# Altium footprint library common.PcbLib: 92 footprints (part 6 of 6)
Each footprint in its own frame and in the unit in brackets; x right, y up, seen from the top. Pads: shape width x height; smd on the part's side, far side on the other; paste and mask are expansions set on the pad; w line width, h text height; cw(c..) or ccw(c..) is an arc to the next point about the centre after c.
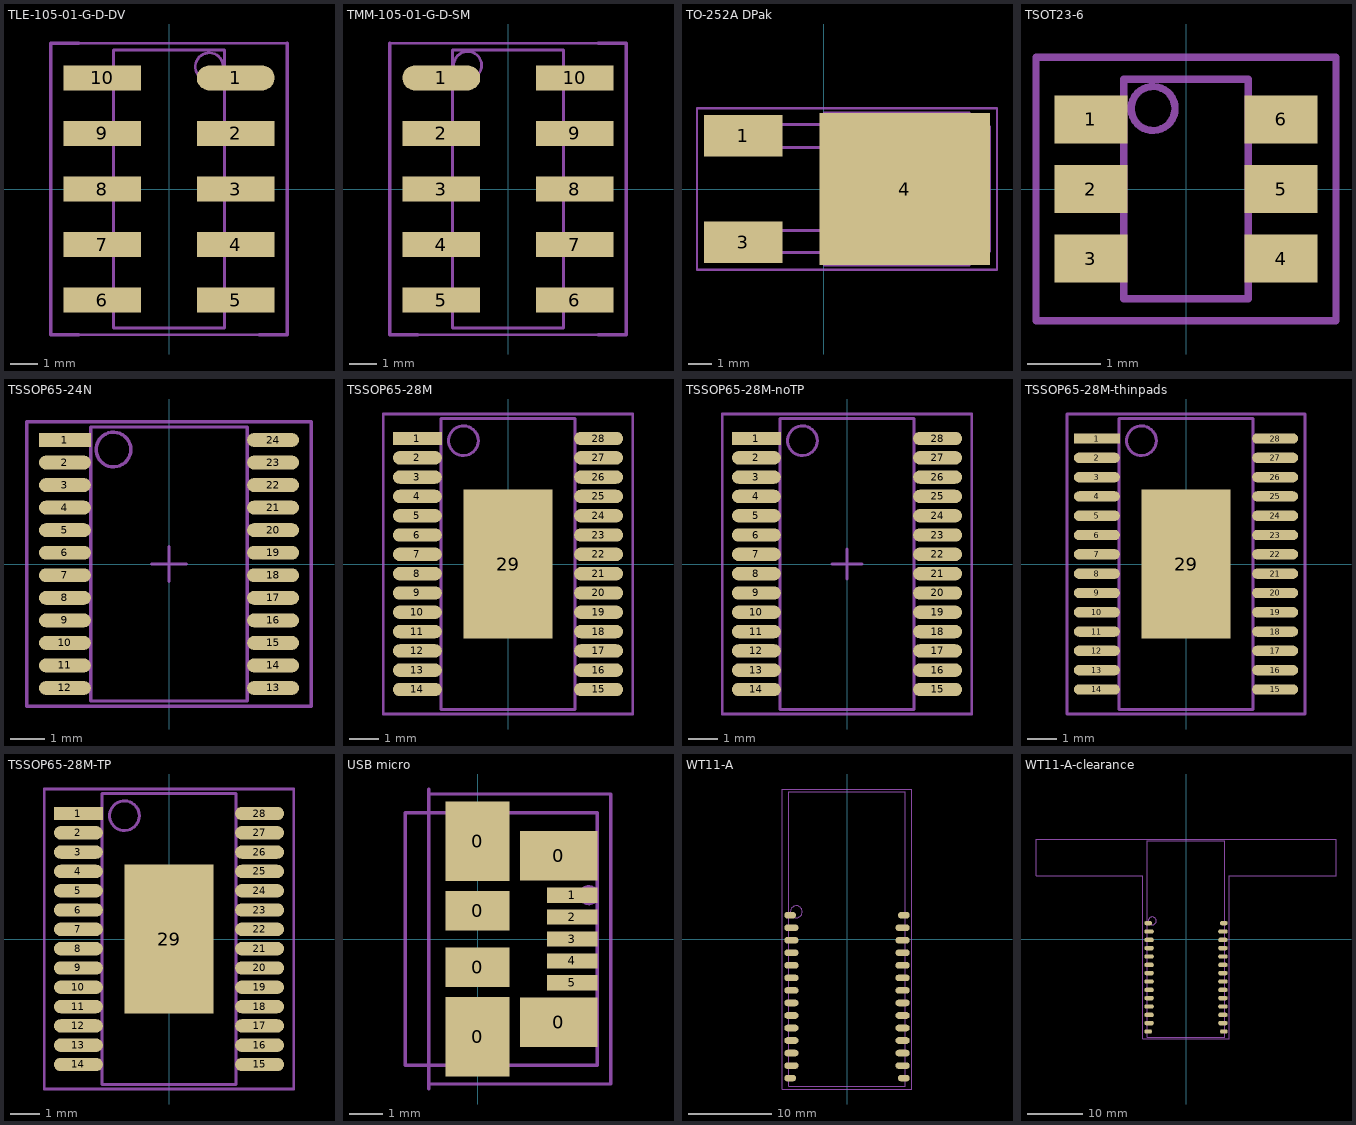
[diagram p5: the footprints below, top view; thin cyan lines are the x and y axes]

## TLE-105-01-G-D-DV [mm] "2x5 Connector Female, Body 10x4mm, Pitch 2mm, IPC Low Density"
height 4.5
pads (10):
  oval 2.8x0.9 smd: 1(2.4,4)
  rect 2.8x0.9 smd: 2(2.4,2) 3(2.4,0) 4(2.4,-2) 5(2.4,-4) 6(-2.4,-4) 7(-2.4,-2) 8(-2.4,0) 9(-2.4,2) 10(-2.4,4)
Mechanical 13:
  circle w0.1: c1.448,4.4 r0.502
  lines w0.1: -2,-5 2,-5 2,5 -2,5 -2,-5
Mechanical 15:
  lines w0.1: -3.25,-5.25 3.25,-5.25 ; -3.25,5.25 4.25,5.25
  lines w0.127: -3.25,-5.25 -4.25,-5.25 -4.25,5.25 -3.25,5.25 ; 3.25,-5.25 4.25,-5.25 4.25,5.25
3D body: height 4.5, standoff 0, extent -2,-5 2,5

## TMM-105-01-G-D-SM [mm] "2x5 Connector Female without holes, Body 10x3.94mm, Pitch 2mm, IPC Low Density"
height 2.77
pads (10):
  oval 2.8x0.9 smd: 1(-2.4,4)
  rect 2.8x0.9 smd: 2(-2.4,2) 3(-2.4,0) 4(-2.4,-2) 5(-2.4,-4) 6(2.4,-4) 7(2.4,-2) 8(2.4,0) 9(2.4,2) 10(2.4,4)
Mechanical 13:
  circle w0.1: c-1.452,4.45 r0.502
  lines w0.1: -2,-5 2,-5 2,5 -2,5 -2,-5
Mechanical 15:
  lines w0.1: -4.25,5.25 3.25,5.25 ; -3.25,-5.25 3.25,-5.25
  lines w0.127: -4.25,5.25 -4.25,-5.25 -3.25,-5.25 ; 3.25,-5.25 4.25,-5.25 4.25,5.25 3.25,5.25
3D body: height 5.92, standoff -1.06, extent -3.275,-5 3.273,5

## TO-252A DPak [mm] "3-Pin Transistor Package, Body 6.75x10.4mm, IPC Low Density"
height 2.4
pads (3):
  rect 3.4x1.8 smd: 1(-3.5,2.3) 3(-3.5,-2.3)
  rect 7.4x6.6 smd: 4(3.5,0)
Mechanical 13:
  lines w0.1: 6.3,-2.7 7.2,-2.7 7.2,2.7 6.3,2.7 ; 0,-3.3 0,3.3 6.3,3.3 6.3,-3.3 0,-3.3
  lines w0.127: 0,-2.75 -5.05,-2.75 -5.05,-1.8 0,-1.8 ; 0,1.8 -4.95,1.8 -4.95,2.8 0,2.8
Mechanical 15:
  lines w0.1: -5.5,-3.5 -5.5,3.5 7.5,3.5 7.5,-3.5 -5.5,-3.5
3D body: height 1.54, standoff 0, extent -5.05,-2.75 0,-1.8
3D body: height 1.54, standoff 0, extent -4.95,1.8 0,2.8
3D body: height 0.6, standoff 0, extent 6.3,-2.7 7.2,2.7
3D body: height 2.4, standoff 0, extent 0,-3.3 6.3,3.3

## TSOT23-6 [mm] "4-Pin Transistor Package, Body 2.9x2.85mm, IPC Low Density"
height 0.87
pads (6):
  rect 1x0.65 smd: 1(-1.3,0.95) 2(-1.3,0) 3(-1.3,-0.95) 4(1.3,-0.95) 5(1.3,0) 6(1.3,0.95)
Mechanical 13:
  circle w0.1: c-0.45,1.1 r0.3
  lines w0.1: -0.85,-1.5 -0.85,1.5 0.85,1.5 0.85,-1.5 -0.85,-1.5
Mechanical 15:
  lines w0.1: -2.05,-1.8 -2.05,1.8 2.05,1.8 2.05,-1.8 -2.05,-1.8
3D body: height 0.9, standoff 0, extent -0.85,-1.5 0.85,1.5

## TSSOP65-24N [mm] "TSSOP, 24-Leads, Body 7.8x4.4mm, Pitch 0.65mm, IPC Medium Density"
height 1.2
pads (24):
  rect 1.5x0.4 smd: 1(-3,3.575)
  oval 1.5x0.4 smd: 2(-3,2.925) 3(-3,2.275) 4(-3,1.625) 5(-3,0.975) 6(-3,0.325) 7(-3,-0.325) 8(-3,-0.975) 9(-3,-1.625) 10(-3,-2.275) 11(-3,-2.925) 12(-3,-3.575) 13(3,-3.575) 14(3,-2.925) 15(3,-2.275) 16(3,-1.625) 17(3,-0.975) 18(3,-0.325) 19(3,0.325) 20(3,0.975) 21(3,1.625) 22(3,2.275) 23(3,2.925) 24(3,3.575)
Mechanical 13:
  circle w0.1: c-1.6,3.3 r0.5
  lines w0.1: -2.25,-3.95 2.25,-3.95 2.25,3.95 -2.25,3.95 -2.25,-3.95
Mechanical 15:
  lines w0.1: -0.5,0 0.5,0 ; 0,-0.5 0,0.5 ; -4.1,-4.1 4.1,-4.1 4.1,4.1 -4.1,4.1 -4.1,-4.1
3D body: height 1.2, standoff 0, extent -2.25,-3.95 2.25,3.95

## TSSOP65-28M [mm] "TSSOP, 28-Leads, Exposed Pad, Body 9.7x4.4mm, Pitch 0.65mm, IPC Low Density"
height 1.2
pads (29):
  rect 1.65x0.45 smd: 1(-3.05,4.225)
  oval 1.65x0.45 smd: 2(-3.05,3.575) 3(-3.05,2.925) 4(-3.05,2.275) 5(-3.05,1.625) 6(-3.05,0.975) 7(-3.05,0.325) 8(-3.05,-0.325) 9(-3.05,-0.975) 10(-3.05,-1.625) 11(-3.05,-2.275) 12(-3.05,-2.925) 13(-3.05,-3.575) 14(-3.05,-4.225) 15(3.05,-4.225) 16(3.05,-3.575) 17(3.05,-2.925) 18(3.05,-2.275) 19(3.05,-1.625) 20(3.05,-0.975) 21(3.05,-0.325) 22(3.05,0.325) 23(3.05,0.975) 24(3.05,1.625) 25(3.05,2.275) 26(3.05,2.925) 27(3.05,3.575) 28(3.05,4.225)
  rect 3x5 smd: 29(0,0)
Mechanical 13:
  circle w0.1: c-1.5,4.15 r0.5
  lines w0.1: -2.25,-4.9 2.25,-4.9 2.25,4.9 -2.25,4.9 -2.25,-4.9
Mechanical 15:
  lines w0.1: -0.5,0 0.5,0 ; 0,-0.5 0,0.5 ; -4.2,-5.05 4.2,-5.05 4.2,5.05 -4.2,5.05 -4.2,-5.05
3D body: height 1.2, standoff 0, extent -2.25,-4.9 2.25,4.9

## TSSOP65-28M-noTP [mm] "TSSOP, 28-Leads, Body 9.7x4.4mm, Pitch 0.65mm, IPC Low Density"
height 1.2
pads (28):
  rect 1.65x0.45 smd: 1(-3.05,4.225)
  oval 1.65x0.45 smd: 2(-3.05,3.575) 3(-3.05,2.925) 4(-3.05,2.275) 5(-3.05,1.625) 6(-3.05,0.975) 7(-3.05,0.325) 8(-3.05,-0.325) 9(-3.05,-0.975) 10(-3.05,-1.625) 11(-3.05,-2.275) 12(-3.05,-2.925) 13(-3.05,-3.575) 14(-3.05,-4.225) 15(3.05,-4.225) 16(3.05,-3.575) 17(3.05,-2.925) 18(3.05,-2.275) 19(3.05,-1.625) 20(3.05,-0.975) 21(3.05,-0.325) 22(3.05,0.325) 23(3.05,0.975) 24(3.05,1.625) 25(3.05,2.275) 26(3.05,2.925) 27(3.05,3.575) 28(3.05,4.225)
Mechanical 13:
  circle w0.1: c-1.5,4.15 r0.5
  lines w0.1: -2.25,-4.9 2.25,-4.9 2.25,4.9 -2.25,4.9 -2.25,-4.9
Mechanical 15:
  lines w0.1: -0.5,0 0.5,0 ; 0,-0.5 0,0.5 ; -4.2,-5.05 4.2,-5.05 4.2,5.05 -4.2,5.05 -4.2,-5.05
3D body: height 1.2, standoff 0, extent -2.25,-4.9 2.25,4.9

## TSSOP65-28M-thinpads [mm] "TSSOP, 28-Leads, Exposed Pad, Body 9.7x4.4mm, Pitch 0.65mm, IPC Low Density"
height 1.2
pads (29):
  rect 1.55x0.35 smd: 1(-3,4.225)
  oval 1.55x0.35 smd: 2(-3,3.575) 3(-3,2.925) 4(-3,2.275) 5(-3,1.625) 6(-3,0.975) 7(-3,0.325) 8(-3,-0.325) 9(-3,-0.975) 10(-3,-1.625) 11(-3,-2.275) 12(-3,-2.925) 13(-3,-3.575) 14(-3,-4.225) 15(3,-4.225) 16(3,-3.575) 17(3,-2.925) 18(3,-2.275) 19(3,-1.625) 20(3,-0.975) 21(3,-0.325) 22(3,0.325) 23(3,0.975) 24(3,1.625) 25(3,2.275) 26(3,2.925) 27(3,3.575) 28(3,4.225)
  rect 3x5 smd: 29(0,0)
Mechanical 13:
  circle w0.1: c-1.5,4.15 r0.5
  lines w0.1: -2.25,-4.9 -2.25,4.9 2.25,4.9 2.25,-4.9 -2.25,-4.9
Mechanical 15:
  lines w0.1: -0.5,0 0.5,0 ; 0,-0.5 0,0.5 ; -4,-5.05 -4,5.05 4,5.05 4,-5.05 -4,-5.05
3D body: height 1.2, standoff 0, extent -2.25,-4.9 2.25,4.9

## TSSOP65-28M-TP [mm] "TSSOP, 28-Leads, Exposed Pad, Body 9.7x4.4mm, Pitch 0.65mm, IPC Low Density"
height 1.2
pads (29):
  rect 1.65x0.45 smd: 1(-3.05,4.225)
  oval 1.65x0.45 smd: 2(-3.05,3.575) 3(-3.05,2.925) 4(-3.05,2.275) 5(-3.05,1.625) 6(-3.05,0.975) 7(-3.05,0.325) 8(-3.05,-0.325) 9(-3.05,-0.975) 10(-3.05,-1.625) 11(-3.05,-2.275) 12(-3.05,-2.925) 13(-3.05,-3.575) 14(-3.05,-4.225) 15(3.05,-4.225) 16(3.05,-3.575) 17(3.05,-2.925) 18(3.05,-2.275) 19(3.05,-1.625) 20(3.05,-0.975) 21(3.05,-0.325) 22(3.05,0.325) 23(3.05,0.975) 24(3.05,1.625) 25(3.05,2.275) 26(3.05,2.925) 27(3.05,3.575) 28(3.05,4.225)
  rect 3x5 smd: 29(0,0)
Mechanical 13:
  circle w0.1: c-1.5,4.15 r0.5
  lines w0.1: -2.25,-4.9 2.25,-4.9 2.25,4.9 -2.25,4.9 -2.25,-4.9
Mechanical 15:
  lines w0.1: -0.5,0 0.5,0 ; 0,-0.5 0,0.5 ; -4.2,-5.05 4.2,-5.05 4.2,5.05 -4.2,5.05 -4.2,-5.05
3D body: height 1.2, standoff 0, extent -2.25,-4.9 2.25,4.9

## USB micro [mm] "Micro USB package, Body 7.5x5.0mm"
height 2.94
pads (11):
  rect 1.9x2.35 smd: 0(0,-2.9) 0(0,2.9)
  rect 1.9x1.175 smd: 0(0,-0.837) 0(0,0.837)
  rect 2.3x1.47 smd: 0(2.4,-2.465) 0(2.4,2.465)
  rect 1.5x0.45 smd: 1(2.8,1.3) 2(2.8,0.65) 3(2.8,0) 4(2.8,-0.65) 5(2.8,-1.3)
Mechanical 13:
  circle w0.1: c3.3,1.3 r0.25
  lines w0.1: -1.45,-4.45 -1.45,4.45 ; -2.15,-3.75 -2.15,3.75 3.55,3.75 3.55,-3.75 -2.15,-3.75
Mechanical 15:
  lines w0.1: -1.45,-4.3 -1.45,4.3 3.95,4.3 3.95,-4.3 -1.45,-4.3
3D body: height 2.95, standoff 0, extent -2.15,-3.75 3.55,3.75

## WT11-A [mm] "Bluetooth Module, Body 35.3x14mm, Pitch 1.5mm, IPC Low Density"
height 2.3
pads (28):
  oval 1.4x0.8 smd: 1(-6.8,2.85) 14(-6.8,-16.65) 15(6.8,-16.65) 28(6.8,2.85)
  oval 1.7x0.8 smd: 2(-6.65,1.35) 3(-6.65,-0.15) 4(-6.65,-1.65) 5(-6.65,-3.15) 6(-6.65,-4.65) 7(-6.65,-6.15) 8(-6.65,-7.65) 9(-6.65,-9.15) 10(-6.65,-10.65) 11(-6.65,-12.15) 12(-6.65,-13.65) 13(-6.65,-15.15) 16(6.65,-15.15) 17(6.65,-13.65) 18(6.65,-12.15) 19(6.65,-10.65) 20(6.65,-9.15) 21(6.65,-7.65) 22(6.65,-6.15) 23(6.65,-4.65) 24(6.65,-3.15) 25(6.65,-1.65) 26(6.65,-0.15) 27(6.65,1.35)
Mechanical 13:
  circle w0.1: c-6.066,3.25 r0.716
  lines w0.1: -7,-17.65 7,-17.65 7,17.65 -7,17.65 -7,-17.65
Mechanical 15:
  lines w0.1: -7.75,-17.95 7.75,-17.95
  lines w0.127: -7.75,-17.95 7.75,-17.95 7.75,11.35 7.75,17.95 -7.75,17.95 -7.75,11.35 -7.75,-17.95
3D body: height 2, standoff 1, extent 2.6,13.35 4.4,16.75
3D body: height 1, standoff 0, extent -7,-17.65 7,17.65
3D body: height 2.3, standoff 1, extent -7,-17.15 7,6.25

## WT11-A-clearance [mm] "Bluetooth Module, Body 35.3x14mm, Pitch 1.5mm, IPC Low Density"
height 2.3
pads (28):
  oval 1.4x0.8 smd: 1(-6.8,2.85) 14(-6.8,-16.65) 15(6.8,-16.65) 28(6.8,2.85)
  oval 1.7x0.8 smd: 2(-6.65,1.35) 3(-6.65,-0.15) 4(-6.65,-1.65) 5(-6.65,-3.15) 6(-6.65,-4.65) 7(-6.65,-6.15) 8(-6.65,-7.65) 9(-6.65,-9.15) 10(-6.65,-10.65) 11(-6.65,-12.15) 12(-6.65,-13.65) 13(-6.65,-15.15) 16(6.65,-15.15) 17(6.65,-13.65) 18(6.65,-12.15) 19(6.65,-10.65) 20(6.65,-9.15) 21(6.65,-7.65) 22(6.65,-6.15) 23(6.65,-4.65) 24(6.65,-3.15) 25(6.65,-1.65) 26(6.65,-0.15) 27(6.65,1.35)
Mechanical 13:
  circle w0.1: c-6.066,3.25 r0.716
  lines w0.1: -7,-17.65 7,-17.65 7,17.65 -7,17.65 -7,-17.65
Mechanical 15:
  lines w0.1: -7.75,-17.95 7.75,-17.95
  lines w0.127: -27,11.35 -7.75,11.35 -7.75,-17.95 7.75,-17.95 7.75,11.35 27,11.35 27,17.95 -27,17.95 -27,11.35
3D body: height 2, standoff 1, extent 2.6,13.35 4.4,16.75
3D body: height 1, standoff 0, extent -7,-17.65 7,17.65
3D body: height 2.3, standoff 1, extent -7,-17.15 7,6.25